# Altium footprint library M-FLAT-2.PcbLib: 1 footprints
Each footprint in its own frame and in the unit in brackets; x right, y up, seen from the top. Pads: shape width x height; smd on the part's side, far side on the other; paste and mask are expansions set on the pad; w line width, h text height; cw(c..) or ccw(c..) is an arc to the next point about the centre after c.
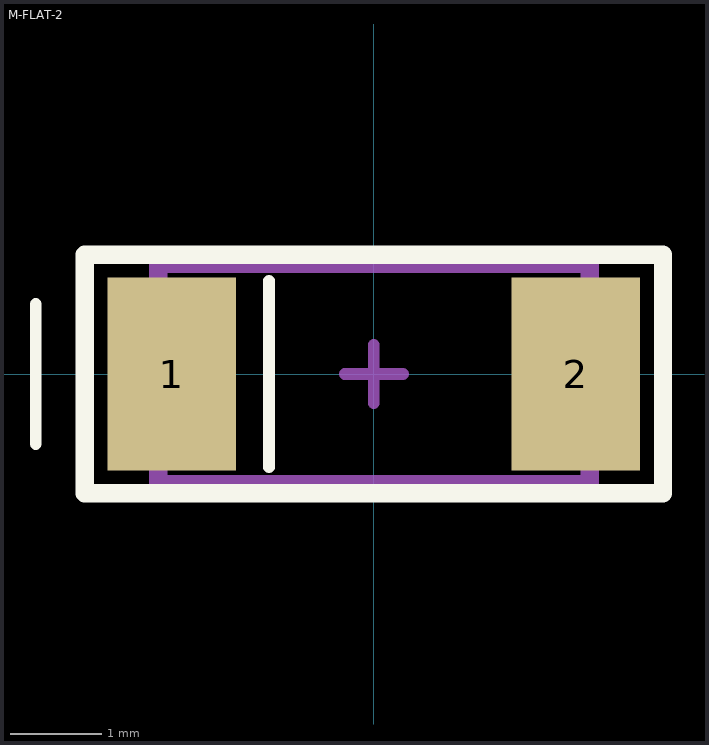
[diagram p0: the footprint, top view; thin cyan lines are the x and y axes]

## M-FLAT-2 [mm]
pads (2):
  rect 1.4x2.1 smd mask+0.051: 1(-2.2,0) 2(2.2,0)
Top Overlay:
  lines w0.127: -3.683,-0.762 -3.683,0.762 ; -1.143,-1.016 -1.143,1.016
  lines w0.2: -3.15,-1.3 -3.15,1.3 3.15,1.3 3.15,-1.3 -3.15,-1.3
Mechanical 13:
  lines w0.2: -2.35,-1.2 -2.35,1.2 2.35,1.2 2.35,-1.2 -2.35,-1.2
Mechanical 15:
  lines w0.127: -0.318,0 0.318,0 ; 0,-0.318 0,0.318
3D body "M-FLAT-ZKN_90.step": height 1.03, standoff 0, extent -2.35,-1.2 2.35,1.2